# EAGLE library part SI9933CDY-PFET (library BB8)
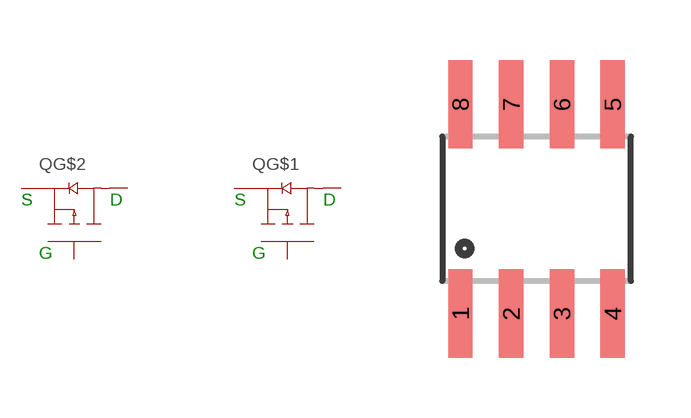
[diagram p16: symbol with the pads of SO08; footprint SO08]

Designator prefix Q; gates G$1=DUAL-PMOS G$2=DUAL-PMOS

## SI9933CDY-PFET  [SO08]
1  G$1:S
2  G$1:G
3  G$2:S
4  G$2:G
5  G$2:D
6  G$2:D
7  G$1:D
8  G$1:D

## Footprint SO08 (pad centres in mm)
Small Outline Package Fits JEDEC packages (narrow SOIC-8)
smd 0.61 x 2.21: 1 -1.905,-2.616; 2 -0.635,-2.616; 3 0.635,-2.616; 4 1.905,-2.616; 5 1.905,2.616; 6 0.635,2.616; 7 -0.635,2.616; 8 -1.905,2.616